# Altium footprint library EwgOpto.PcbLib: 21 footprints (part 1 of 2)
Each footprint in its own frame and in the unit in brackets; x right, y up, seen from the top. Pads: shape width x height; smd on the part's side, far side on the other; paste and mask are expansions set on the pad; w line width, h text height; cw(c..) or ccw(c..) is an arc to the next point about the centre after c.
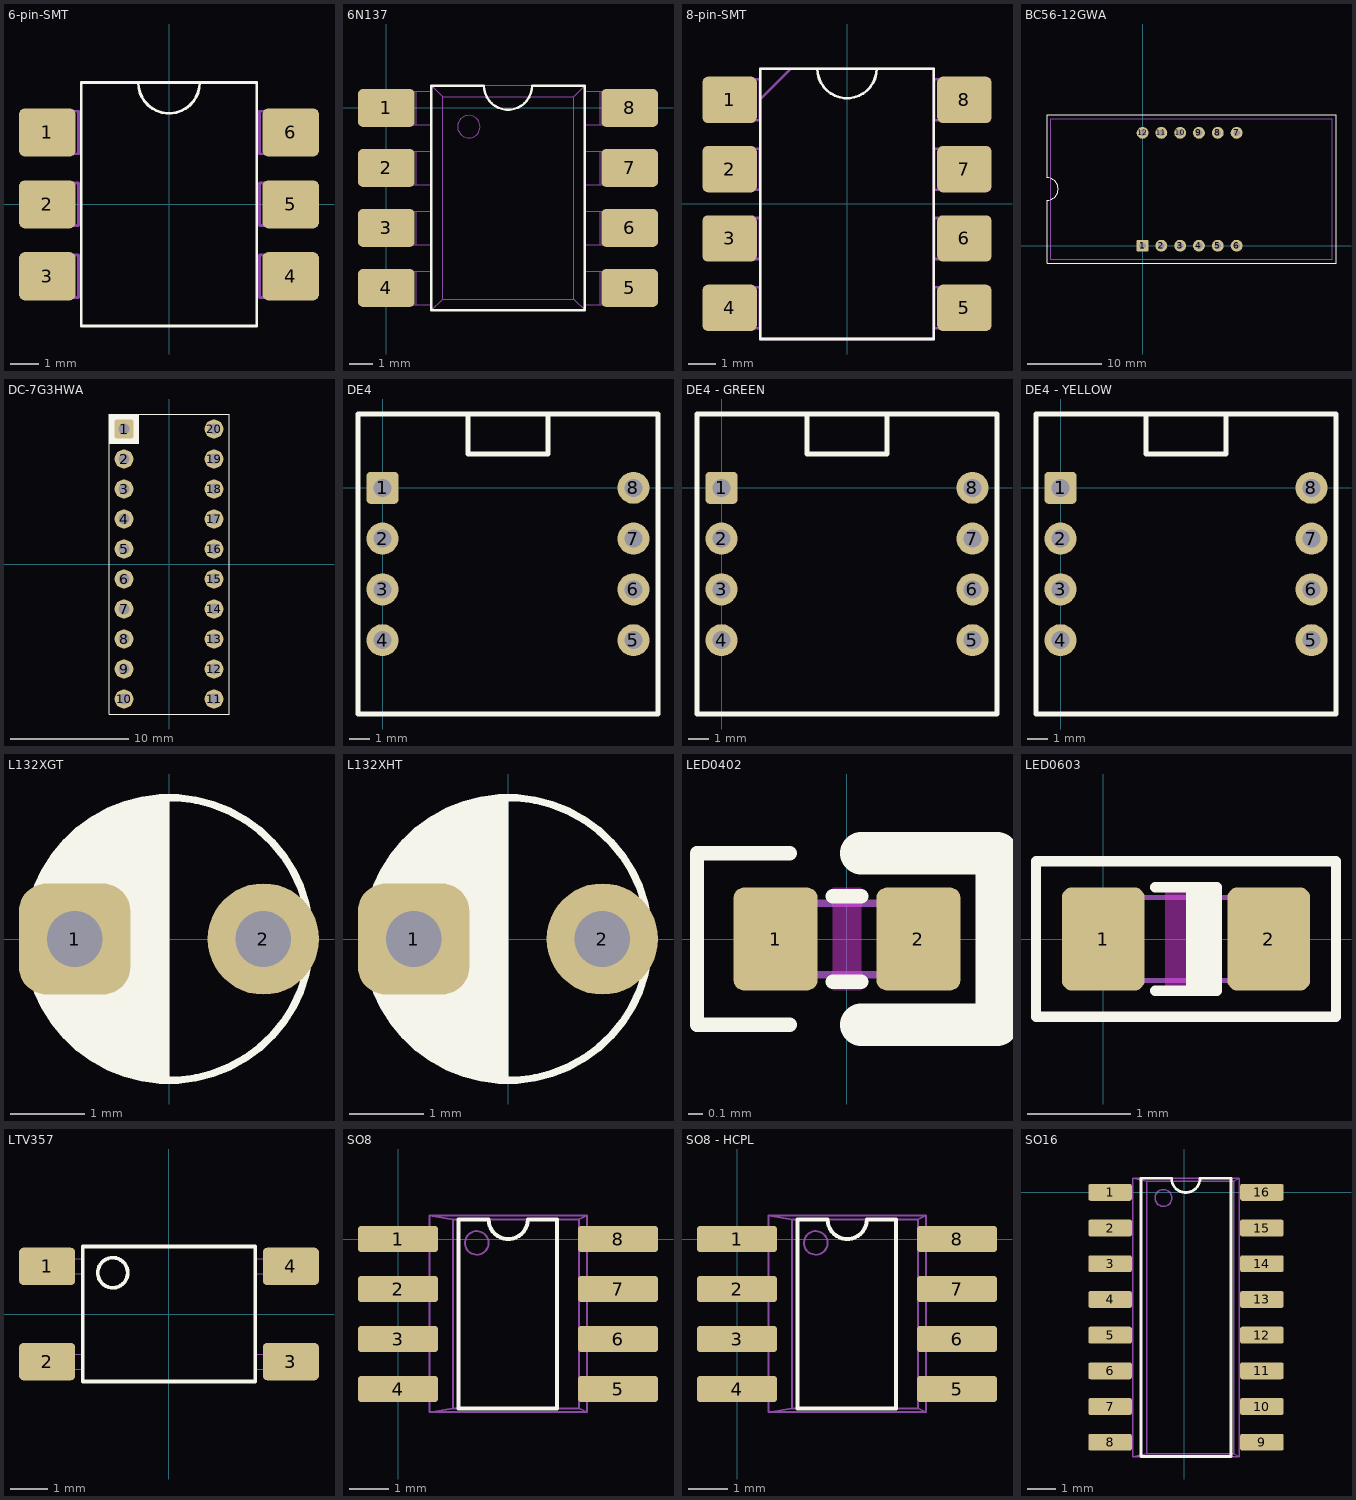
[diagram p0: the footprints below, top view; thin cyan lines are the x and y axes]

## 6-pin-SMT [mm]
height 4
pads (6):
  rrect25% 2x1.7 smd: 1(-4.3,2.54) 2(-4.3,0) 3(-4.3,-2.54) 4(4.3,-2.54) 5(4.3,0) 6(4.3,2.54)
Top Overlay:
  lines w0.1: -1.085,4.3 ccw(c0,4.3) 1.085,4.3 ; -3.1,-4.3 3.1,-4.3 3.1,4.3 -3.1,4.3 -3.1,-4.3
Mechanical 1:
  lines w0.1: -5.2,-3.29 -3.2,-3.29 -3.2,-1.79 -5.2,-1.79 -5.2,-3.29 ; -5.2,-0.75 -3.2,-0.75 -3.2,0.75 -5.2,0.75 -5.2,-0.75 ; -5.2,1.79 -3.2,1.79 -3.2,3.29 -5.2,3.29 -5.2,1.79 ; 3.2,-3.29 5.2,-3.29 5.2,-1.79 3.2,-1.79 3.2,-3.29 ; 3.2,-0.75 5.2,-0.75 5.2,0.75 3.2,0.75 3.2,-0.75 ; 3.2,1.79 5.2,1.79 5.2,3.29 3.2,3.29 3.2,1.79
3D body: height 4.17, standoff 0, extent -5,-4.3 5,4.3

## 6N137 [mm]
pads (8):
  rrect25% 2.4x1.6 smd: 1(0,0) 2(0,-2.54) 3(0,-5.08) 4(0,-7.62) 5(10.3,-7.62) 6(10.3,-5.08) 7(10.3,-2.54) 8(10.3,0)
Top Overlay:
  lines w0.1: 1.9,-8.56 8.4,-8.56 8.4,0.94 6.166,0.94 cw(c5.15,0.94) 4.134,0.94 1.9,0.94 1.9,-8.56
Mechanical 1:
  circle w0.05: c3.492,-0.794 r0.476
  lines w0.05: 1.27,-8.334 1.27,-6.906 ; 1.27,-5.794 1.27,-4.366 ; 1.27,-3.254 1.27,-1.826 ; 1.27,-0.714 1.27,0.714 ; 1.905,-8.334 0.953,-8.334 0.476,-7.858 0,-7.858 0,-7.382 0.476,-7.382 0.953,-6.906 1.905,-6.906 ; 1.905,-5.794 0.953,-5.794 0.476,-5.318 0,-5.318 0,-4.842 0.476,-4.842 0.953,-4.366 1.905,-4.366 ; 1.905,-3.254 0.953,-3.254 0.476,-2.778 0,-2.778 0,-2.302 0.476,-2.302 0.953,-1.826 1.905,-1.826 ; 1.905,-0.714 0.953,-0.714 0.476,-0.238 0,-0.238 0,0.238 0.476,0.238 0.953,0.714 1.905,0.714 ; 8.414,-8.334 9.367,-8.334 9.843,-7.858 10.319,-7.858 10.319,-7.382 9.843,-7.382 9.367,-6.906 8.414,-6.906 ; 8.414,-5.794 9.367,-5.794 9.843,-5.318 10.319,-5.318 10.319,-4.842 9.843,-4.842 9.367,-4.366 8.414,-4.366 ; 8.414,-3.254 9.367,-3.254 9.843,-2.778 10.319,-2.778 10.319,-2.302 9.843,-2.302 9.367,-1.826 8.414,-1.826 ; 8.414,-0.714 9.367,-0.714 9.843,-0.238 10.319,-0.238 10.319,0.238 9.843,0.238 9.367,0.714 8.414,0.714 ; 9.049,-8.334 9.049,-6.906 ; 9.049,-5.794 9.049,-4.366 ; 9.049,-3.254 9.049,-1.826 ; 9.049,-0.714 9.049,0.714 ; 1.905,-8.573 8.414,-8.573 ; 1.905,-8.573 1.905,0.953 ; 1.905,-8.572 2.381,-8.096 ; 1.905,0.953 8.414,0.953 ; 1.905,0.953 2.381,0.476 ; 2.381,-8.096 7.938,-8.096 ; 2.381,-8.096 2.381,0.476 ; 2.381,0.476 7.938,0.476 ; 7.938,-8.096 7.938,0.476 ; 7.938,-8.096 8.414,-8.572 ; 7.938,0.476 8.414,0.953 ; 8.414,-8.573 8.414,0.953

## 8-pin-SMT [mm]
height 4.5
pads (8):
  rrect25% 2x1.7 smd: 1(-4.3,3.81) 2(-4.3,1.27) 3(-4.3,-1.27) 4(-4.3,-3.81) 5(4.3,-3.81) 6(4.3,-1.27) 7(4.3,1.27) 8(4.3,3.81)
Top Overlay:
  lines w0.1: -1.085,4.953 ccw(c0,4.953) 1.085,4.953 ; -3.175,-4.953 3.175,-4.953 3.175,4.953 -3.175,4.953 -3.175,-4.953
Mechanical 1:
  lines w0.1: -3.2,3.81 -2.057,4.953 -1.905,4.953 ; -5.2,-4.56 -5.2,-3.06 -3.2,-3.06 -3.2,-4.56 -5.2,-4.56 ; -5.2,-2.02 -3.2,-2.02 -3.2,-0.52 -5.2,-0.52 -5.2,-2.02 ; -5.2,0.52 -3.2,0.52 -3.2,2.02 -5.2,2.02 -5.2,0.52 ; -5.2,3.06 -3.2,3.06 -3.2,4.56 -5.2,4.56 -5.2,3.06 ; -3.175,-4.953 -3.175,4.953 3.175,4.953 3.175,-4.953 -3.175,-4.953 ; 3.2,-4.56 3.2,-3.06 5.2,-3.06 5.2,-4.56 3.2,-4.56 ; 3.2,-2.02 5.2,-2.02 5.2,-0.52 3.2,-0.52 3.2,-2.02 ; 3.2,0.52 5.2,0.52 5.2,2.02 3.2,2.02 3.2,0.52 ; 3.2,3.06 5.2,3.06 5.2,4.56 3.2,4.56 3.2,3.06
3D body: height 4.17, standoff 0, extent -5,-4.8 5,4.8

## BC56-12GWA [mm]
pads (12):
  rrect25% 1.6x1.6 hole 0.9: 1(0,0)
  round 1.6 hole 0.9: 2(2.54,0) 3(5.08,0) 4(7.62,0) 5(10.16,0) 6(12.7,0) 7(12.7,15.24) 8(10.16,15.24) 9(7.62,15.24) 10(5.08,15.24) 11(2.54,15.24) 12(0,15.24)
Top Overlay:
  lines w0.1: -12.88,-2.34 -12.88,6.16 ccw(c-12.88,7.66) -12.88,9.16 -12.88,17.66 26.12,17.66 26.12,-2.34 -12.88,-2.34
Mechanical 1:
  lines w0.05: -12.38,-1.84 -12.38,17.16 25.62,17.16 25.62,-1.84 -12.38,-1.84
  text "8.8.8." at -9.88,1.16 h7.5

## DC-7G3HWA [mm]
pads (20):
  rrect25% 1.6x1.6 hole 0.9: 1(-3.81,11.43)
  round 1.6 hole 0.9: 2(-3.81,8.89) 3(-3.81,6.35) 4(-3.81,3.81) 5(-3.81,1.27) 6(-3.81,-1.27) 7(-3.81,-3.81) 8(-3.81,-6.35) 9(-3.81,-8.89) 10(-3.81,-11.43) 11(3.81,-11.43) 12(3.81,-8.89) 13(3.81,-6.35) 14(3.81,-3.81) 15(3.81,-1.27) 16(3.81,1.27) 17(3.81,3.81) 18(3.81,6.35) 19(3.81,8.89) 20(3.81,11.43)
Top Overlay:
  rectangle: -5.08,10.16 -2.54,12.7
  lines w0.1: -5.08,-12.7 -5.08,12.7 5.08,12.7 5.08,-12.7 -5.08,-12.7
3D body: height 9.8, standoff -4, extent -5.08,-12.7 5.08,12.7

## DE4 [mm]
pads (8):
  rrect25% 1.6x1.6 hole 0.9: 1(0,0)
  round 1.6 hole 0.9: 2(0,-2.54) 3(0,-5.08) 4(0,-7.62) 5(12.55,-7.62) 6(12.55,-5.08) 7(12.55,-2.54) 8(12.55,0)
Top Overlay:
  lines w0.254: 4.275,3.69 4.275,1.69 8.275,1.69 8.275,3.69 ; 4.275,3.69 -1.225,3.69 -1.225,-11.31 13.775,-11.31 13.775,3.69 8.275,3.69 ; 4.275,3.69 8.275,3.69
Mechanical 1:
  lines w0.1: 4.275,3.69 4.275,1.69 8.275,1.69 8.275,3.69 ; -1.225,-11.31 -1.225,3.69 13.775,3.69 13.775,-11.31 -1.225,-11.31
3D body: height 11, standoff -4, extent -1.225,-11.31 13.775,3.69

## DE4 - GREEN [mm]
pads (8):
  rrect25% 1.6x1.6 hole 0.9: 1(0,0)
  round 1.6 hole 0.9: 2(0,-2.54) 3(0,-5.08) 4(0,-7.62) 5(12.55,-7.62) 6(12.55,-5.08) 7(12.55,-2.54) 8(12.55,0)
Top Overlay:
  lines w0.254: 4.275,3.69 8.275,3.69 ; 4.275,3.69 -1.225,3.69 -1.225,-11.31 13.775,-11.31 13.775,3.69 8.275,3.69 ; 4.275,3.69 4.275,1.69 8.275,1.69 8.275,3.69
Mechanical 1:
  lines w0.1: 4.275,3.69 4.275,1.69 8.275,1.69 8.275,3.69 ; -1.225,-11.31 13.775,-11.31 13.775,3.69 -1.225,3.69 -1.225,-11.31
3D body: height 11, standoff -4, extent -1.225,-11.31 13.775,3.69

## DE4 - YELLOW [mm]
pads (8):
  rrect25% 1.6x1.6 hole 0.9: 1(0,0)
  round 1.6 hole 0.9: 2(0,-2.54) 3(0,-5.08) 4(0,-7.62) 5(12.55,-7.62) 6(12.55,-5.08) 7(12.55,-2.54) 8(12.55,0)
Top Overlay:
  lines w0.254: 4.275,3.69 8.275,3.69 ; 4.275,3.69 -1.225,3.69 -1.225,-11.31 13.775,-11.31 13.775,3.69 8.275,3.69 ; 4.275,3.69 4.275,1.69 8.275,1.69 8.275,3.69
Mechanical 1:
  lines w0.1: 4.275,3.69 4.275,1.69 8.275,1.69 8.275,3.69 ; -1.225,-11.31 13.775,-11.31 13.775,3.69 -1.225,3.69 -1.225,-11.31
3D body: height 11, standoff -4, extent -1.225,-11.31 13.775,3.69

## L132XGT [mm]
pads (2):
  rrect50% 1.5x1.5 hole 0.75: 1(-1.27,0)
  round 1.5 hole 0.75: 2(1.27,0)
Top Overlay:
  circle w0.1: c0,0 r1.905
  region: 0,1.905 0,-1.905 -0.625,-1.8 -1.15,-1.5 -1.27,-1.397 -1.651,-1.016 -1.7,-0.875 -1.778,-0.762 -1.95,0.075 -1.7,0.875 -1.275,1.4 -0.775,1.725 -0.5,1.85
3D body: height 5.2, standoff -3, extent -1.736,-1.746 1.75,1.747

## L132XHT [mm]
pads (2):
  rrect50% 1.5x1.5 hole 0.75: 1(-1.27,0)
  round 1.5 hole 0.75: 2(1.27,0)
Top Overlay:
  circle w0.1: c0,0 r1.905
  region: 0,1.905 0,-1.905 -0.625,-1.8 -1.15,-1.5 -1.27,-1.397 -1.651,-1.016 -1.7,-0.875 -1.778,-0.762 -1.95,0.075 -1.7,0.875 -1.275,1.4 -0.775,1.725 -0.5,1.85
3D body: height 5.2, standoff -3, extent -1.736,-1.746 1.75,1.747

## LED0402 [mm]
pads (2):
  rrect25% 0.59x0.72 smd: 1(-0.5,0) 2(0.5,0)
Top Layer keep-out:
  region: -0.1,0.36 -0.1,-0.36 0.1,-0.36 0.1,0.36
Top Overlay:
  lines w0.1: -0.4,-0.6 -1.05,-0.6 -1.05,0.6 -0.4,0.6 ; -0.1,-0.3 0.1,-0.3 ; -0.1,0.3 0.1,0.3
  lines w0.3: 0.1,-0.6 1.05,-0.6 1.05,0.6 0.1,0.6
Mechanical 1:
  lines w0.05: -0.3,0.25 -0.3,-0.25 -0.5,-0.25 ; 0.3,-0.25 0.3,0.25 ; -0.5,-0.25 -0.5,0.25 0.5,0.25 0.5,-0.25 -0.5,-0.25
3D body: height 0.45, standoff 0, extent -0.505,-0.25 0.505,0.25

## LED0603 [mm]
pads (2):
  rrect25% 0.8x1 smd: 1(0,0) 2(1.6,0)
Top Layer keep-out:
  region: 0.6,0.5 0.6,-0.5 1,-0.5 1,0.5
Top Overlay:
  region: 0.8,0.5 0.8,-0.5 1.1,-0.5 1.1,0.5
  lines w0.1: 0.5,-0.5 1.1,-0.5 1.1,0.5 0.5,0.5 ; -0.65,-0.75 -0.65,0.75 2.25,0.75 2.25,-0.75 -0.65,-0.75
Mechanical 1:
  lines w0.05: 0.3,-0.4 0.3,0.4 ; 1.3,-0.4 1.3,0.4 ; 0,-0.4 0,0.4 1.6,0.4 1.6,-0.4 0,-0.4
3D body: height 0.6, standoff 0, extent 0,-0.41 1.62,0.39

## LTV357 [mm] "SO4"
height 2.2
pads (4):
  rrect25% 1.5x1 smd: 1(-3.25,1.27) 2(-3.25,-1.27) 3(3.25,-1.27) 4(3.25,1.27)
Top Overlay:
  circle w0.1: c-1.5,1.1 r0.4
  lines w0.1: -2.3,-1.8 -2.3,1.8 2.3,1.8 2.3,-1.8 -2.3,-1.8
Mechanical 1:
  lines w0.01: -2.3,-1.8 2.3,-1.8 2.3,1.8 -2.3,1.8 -2.3,-1.8
  lines w0.015: -3.099,-1.067 -3.099,-1.473 -3.505,-1.473 ; -3.099,1.067 -3.099,1.473 -3.505,1.473 ; -2.3,-1.473 -3.505,-1.473 ; -2.3,-1.067 -3.505,-1.067 -3.505,-1.473 ; -2.3,1.067 -3.505,1.067 -3.505,1.473 ; -2.3,1.473 -3.505,1.473 ; 2.3,-1.473 3.505,-1.473 ; 2.3,-1.067 3.505,-1.067 3.505,-1.473 ; 2.3,1.067 3.505,1.067 3.505,1.473 ; 2.3,1.473 3.505,1.473 ; 3.099,-1.067 3.099,-1.473 3.505,-1.473 ; 3.099,1.067 3.099,1.473 3.505,1.473
3D body: height 2.09, standoff -0.01, extent -3.5,-1.925 3.5,1.925

## SO8 [mil]
pads (8):
  rrect25% 80x26 smd: 1(0,0) 2(0,-50) 3(0,-100) 4(0,-150) 5(220,-150) 6(220,-100) 7(220,-50) 8(220,0)
Top Overlay:
  lines w3.94: 60.63,-169.29 60.63,19.68 72.05,19.68 90.55,19.68 ccw(c110.24,19.68) 129.92,19.68 147.64,19.68 159.06,19.68 159.06,-169.29 60.63,-169.29
Mechanical 1:
  circle w1.97: c78.74,-3.94 r11.81
  lines w1.97: 7.87,-157.87 7.87,-142.13 ; 7.87,-107.87 7.87,-92.13 ; 7.87,-57.87 7.87,-42.13 ; 7.87,-7.87 7.87,7.87 ; 31.5,-157.87 -15.75,-157.87 -15.75,-142.13 31.5,-142.13 ; 31.5,-107.87 -15.75,-107.87 -15.75,-92.13 31.5,-92.13 ; 31.5,-57.87 -15.75,-57.87 -15.75,-42.13 31.5,-42.13 ; 31.5,-7.87 -15.75,-7.87 -15.75,7.87 31.5,7.87 ; 188.98,-157.87 236.22,-157.87 236.22,-142.13 188.98,-142.13 ; 188.98,-107.87 236.22,-107.87 236.22,-92.13 188.98,-92.13 ; 188.98,-57.87 236.22,-57.87 236.22,-42.13 188.98,-42.13 ; 188.98,-7.87 236.22,-7.87 236.22,7.87 188.98,7.87 ; 212.6,-157.87 212.6,-142.13 ; 212.6,-107.87 212.6,-92.13 ; 212.6,-57.87 212.6,-42.13 ; 212.6,-7.87 212.6,7.87 ; 31.5,-173.23 188.98,-173.23 ; 31.5,-173.23 31.5,23.62 ; 31.5,-173.23 55.12,-169.29 ; 31.5,23.62 188.98,23.62 ; 31.5,23.62 55.12,19.68 ; 55.12,-169.29 181.1,-169.29 ; 55.12,-169.29 55.12,19.68 ; 55.12,19.68 181.1,19.68 ; 181.1,-169.29 181.1,19.68 ; 181.1,-169.29 188.98,-173.23 ; 181.1,19.68 188.98,23.62 ; 188.98,-173.23 188.98,23.62
3D body: height 68.9, standoff 0.01, extent -8.09,-173.23 228.58,23.62

## SO8 - HCPL [mil]
pads (8):
  rrect25% 80x26 smd: 1(0,0) 2(0,-50) 3(0,-100) 4(0,-150) 5(220,-150) 6(220,-100) 7(220,-50) 8(220,0)
Top Overlay:
  lines w3.94: 60.63,-169.29 159.06,-169.29 159.06,19.68 147.64,19.68 129.92,19.68 cw(c110.24,19.68) 90.55,19.69 72.05,19.68 60.63,19.68 60.63,-169.29
Mechanical 1:
  circle w1.97: c78.74,-3.94 r11.81
  lines w1.97: 7.87,-157.87 7.87,-142.13 ; 7.87,-107.87 7.87,-92.13 ; 7.87,-57.87 7.87,-42.13 ; 7.87,-7.87 7.87,7.87 ; 31.5,-157.87 -15.75,-157.87 -15.75,-142.13 31.5,-142.13 ; 31.5,-107.87 -15.75,-107.87 -15.75,-92.13 31.5,-92.13 ; 31.5,-57.87 -15.75,-57.87 -15.75,-42.13 31.5,-42.13 ; 31.5,-7.87 -15.75,-7.87 -15.75,7.87 31.5,7.87 ; 188.98,-157.87 236.22,-157.87 236.22,-142.13 188.98,-142.13 ; 188.98,-107.87 236.22,-107.87 236.22,-92.13 188.98,-92.13 ; 188.98,-57.87 236.22,-57.87 236.22,-42.13 188.98,-42.13 ; 188.98,-7.87 236.22,-7.87 236.22,7.87 188.98,7.87 ; 212.6,-157.87 212.6,-142.13 ; 212.6,-107.87 212.6,-92.13 ; 212.6,-57.87 212.6,-42.13 ; 212.6,-7.87 212.6,7.87 ; 31.5,-173.23 188.98,-173.23 ; 31.5,-173.23 31.5,23.62 ; 31.5,-173.23 55.12,-169.29 ; 31.5,23.62 188.98,23.62 ; 31.5,23.62 55.12,19.68 ; 55.12,-169.29 181.1,-169.29 ; 55.12,-169.29 55.12,19.68 ; 55.12,19.68 181.1,19.68 ; 181.1,-169.29 181.1,19.68 ; 181.1,-169.29 188.98,-173.23 ; 181.1,19.68 188.98,23.62 ; 188.98,-173.23 188.98,23.62
3D body: height 130.31, standoff -16.21, extent -7.98,-173.23 228.46,23.62

## SO16 [mm]
pads (16):
  rrect25% 1.55x0.6 smd: 1(-2.64,0) 2(-2.64,-1.27) 3(-2.64,-2.54) 4(-2.64,-3.81) 5(-2.64,-5.08) 6(-2.64,-6.35) 7(-2.64,-7.62) 8(-2.64,-8.89) 9(2.76,-8.89) 10(2.76,-7.62) 11(2.76,-6.35) 12(2.76,-5.08) 13(2.76,-3.81) 14(2.76,-2.54) 15(2.76,-1.27) 16(2.76,0)
Top Overlay:
  lines w0.1: -1.54,-9.4 -1.54,0.5 -0.703,0.5 -0.456,0.5 ccw(c0.052,0.5) 0.56,0.5 0.823,0.5 1.66,0.5 1.66,-9.4 -1.54,-9.4
Mechanical 1:
  circle w0.05: c-0.74,-0.2 r0.3
  lines w0.05: -2.44,-9.09 -2.44,-8.69 ; -2.44,-7.82 -2.44,-7.42 ; -2.44,-6.55 -2.44,-6.15 ; -2.44,-5.28 -2.44,-4.88 ; -2.44,-4.01 -2.44,-3.61 ; -2.44,-2.74 -2.44,-2.34 ; -2.44,-1.47 -2.44,-1.07 ; -2.44,-0.2 -2.44,0.2 ; -1.84,-9.09 -2.94,-9.09 -2.94,-8.69 -1.84,-8.69 ; -1.84,-7.82 -2.94,-7.82 -2.94,-7.42 -1.84,-7.42 ; -1.84,-6.55 -2.94,-6.55 -2.94,-6.15 -1.84,-6.15 ; -1.84,-5.28 -2.94,-5.28 -2.94,-4.88 -1.84,-4.88 ; -1.84,-4.01 -2.94,-4.01 -2.94,-3.61 -1.84,-3.61 ; -1.84,-2.74 -2.94,-2.74 -2.94,-2.34 -1.84,-2.34 ; -1.84,-1.47 -2.94,-1.47 -2.94,-1.07 -1.84,-1.07 ; -1.84,-0.2 -2.94,-0.2 -2.94,0.2 -1.84,0.2 ; 1.96,-9.09 3.06,-9.09 3.06,-8.69 1.96,-8.69 ; 1.96,-7.82 3.06,-7.82 3.06,-7.42 1.96,-7.42 ; 1.96,-6.55 3.06,-6.55 3.06,-6.15 1.96,-6.15 ; 1.96,-5.28 3.06,-5.28 3.06,-4.88 1.96,-4.88 ; 1.96,-4.01 3.06,-4.01 3.06,-3.61 1.96,-3.61 ; 1.96,-2.74 3.06,-2.74 3.06,-2.34 1.96,-2.34 ; 1.96,-1.47 3.06,-1.47 3.06,-1.07 1.96,-1.07 ; 1.96,-0.2 3.06,-0.2 3.06,0.2 1.96,0.2 ; 2.56,-9.09 2.56,-8.69 ; 2.56,-7.82 2.56,-7.42 ; 2.56,-6.55 2.56,-6.15 ; 2.56,-5.28 2.56,-4.88 ; 2.56,-4.01 2.56,-3.61 ; 2.56,-2.74 2.56,-2.34 ; 2.56,-1.47 2.56,-1.07 ; 2.56,-0.2 2.56,0.2 ; -1.84,-9.4 -1.34,-9.3 ; -1.84,-9.4 -1.84,0.5 ; -1.84,-9.4 1.96,-9.4 ; -1.84,0.5 -1.34,0.4 ; -1.84,0.5 1.96,0.5 ; -1.34,-9.3 -1.34,0.4 ; -1.34,-9.3 1.76,-9.3 ; -1.34,0.4 1.76,0.4 ; 1.76,-9.3 1.96,-9.4 ; 1.76,-9.3 1.76,0.4 ; 1.76,0.4 1.96,0.5 ; 1.96,-9.4 1.96,0.5
3D body: height 1.7, standoff -0.05, extent -3.065,-9.45 3.135,0.55